# EAGLE library part ATMEGA328P (library Ilya_Teach)
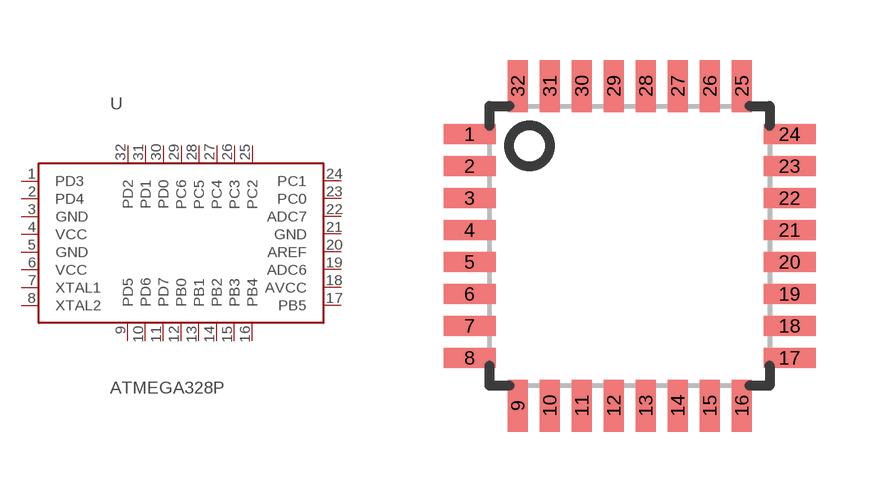
[diagram p8: symbol with the pads of TQFP32-ATMEGA; footprint TQFP32-ATMEGA]

Designator prefix -

## ATMEGA328P  [TQFP32-ATMEGA]
1  PD3
2  PD4
3  GND
4  VCC
5  GND
6  VCC
7  XTAL1
8  XTAL2
9  PD5
10  PD6
11  PD7
12  PB0
13  PB1
14  PB2
15  PB3
16  PB4
17  PB5
18  AVCC
19  ADC6
20  AREF
21  GND
22  ADC7
23  PC0
24  PC1
25  PC2
26  PC3
27  PC4
28  PC5
29  PC6
30  PD0
31  PD1
32  PD2

## Footprint TQFP32-ATMEGA (pad centres in mm)
smd 1.3 x 0.5: 1 -4,2.8; 2 -4,2; 3 -4,1.2; 4 -4,0.4; 5 -4,-0.4; 6 -4,-1.2; 7 -4,-2; 8 -4,-2.8; 17 4,-2.8; 18 4,-2; 19 4,-1.2; 20 4,-0.4; 21 4,0.4; 22 4,1.2; 23 4,2; 24 4,2.8
smd 0.5 x 1.3: 9 -2.8,-4; 10 -2,-4; 11 -1.2,-4; 12 -0.4,-4; 13 0.4,-4; 14 1.2,-4; 15 2,-4; 16 2.8,-4; 25 2.8,4; 26 2,4; 27 1.2,4; 28 0.4,4; 29 -0.4,4; 30 -1.2,4; 31 -2,4; 32 -2.8,4